# Altium footprint library USB_INTERFACE.PcbLib: 1 footprints
Each footprint in its own frame and in the unit in brackets; x right, y up, seen from the top. Pads: shape width x height; smd on the part's side, far side on the other; paste and mask are expansions set on the pad; w line width, h text height; cw(c..) or ccw(c..) is an arc to the next point about the centre after c.
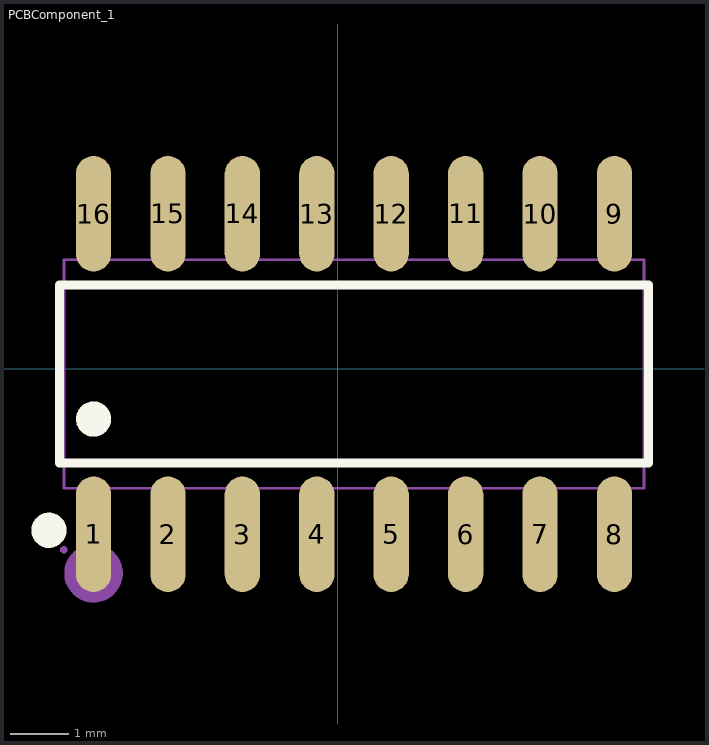
[diagram p0: the footprint, top view; thin cyan lines are the x and y axes]

## PCBComponent_1 [mm]
pads (16):
  oval 0.602x1.971 smd paste+0 mask+0.051: 1(-4.168,-2.825) 2(-2.898,-2.825) 3(-1.628,-2.825) 4(-0.358,-2.825) 5(0.912,-2.825) 6(2.182,-2.825) 7(3.452,-2.825) 8(4.722,-2.825) 9(4.722,2.647) 10(3.452,2.647) 11(2.182,2.647) 12(0.912,2.647) 13(-0.358,2.647) 14(-1.628,2.647) 15(-2.898,2.647) 16(-4.168,2.647)
Top Overlay:
  circle w0.3: c-4.93,-2.756 r0.15
  circle w0.3: c-4.168,-0.858 r0.15
  lines w0.152: -4.749,-1.61 5.303,-1.61 5.303,1.432 -4.749,1.432 -4.749,-1.61
Mechanical 6:
  circle w0.5: c-4.168,-3.489 r0.25
Mechanical 15:
  drawing of 37 lines, arcs and shapes, not listed
3D body "Ch340G--3DModel-STEP-56544.STEP": height 1.71, standoff -0.09, extent -4.746,-3 5.254,3